# EAGLE library part MAX857X (library vreg-pulse)
High-Efficiency LCD Boost with True Shutdown
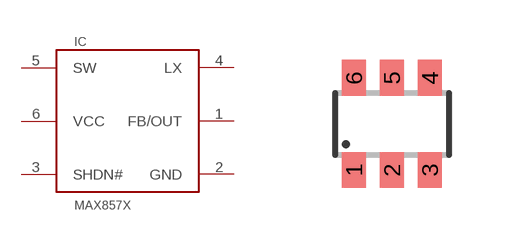
[diagram p3: symbol with the pads of SOT23-6; footprint SOT23-6]

Designator prefix IC

## MAX857X  [SOT23-6]
1  FB/OUT  in
2  GND  pwr
3  SHDN#  in
4  LX  pas
5  SW  pas
6  VCC  pwr

## Footprint SOT23-6 (pad centres in mm)
Small Outline Transistor 6 lead
smd 0.6 x 0.9: 1 -0.95,-1.15; 2 0,-1.15; 3 0.95,-1.15; 4 0.95,1.15; 5 0,1.15; 6 -0.95,1.15